# Altium schematic symbol library Schlib_Altera.SchLib: 17 symbols (part 2 of 4)
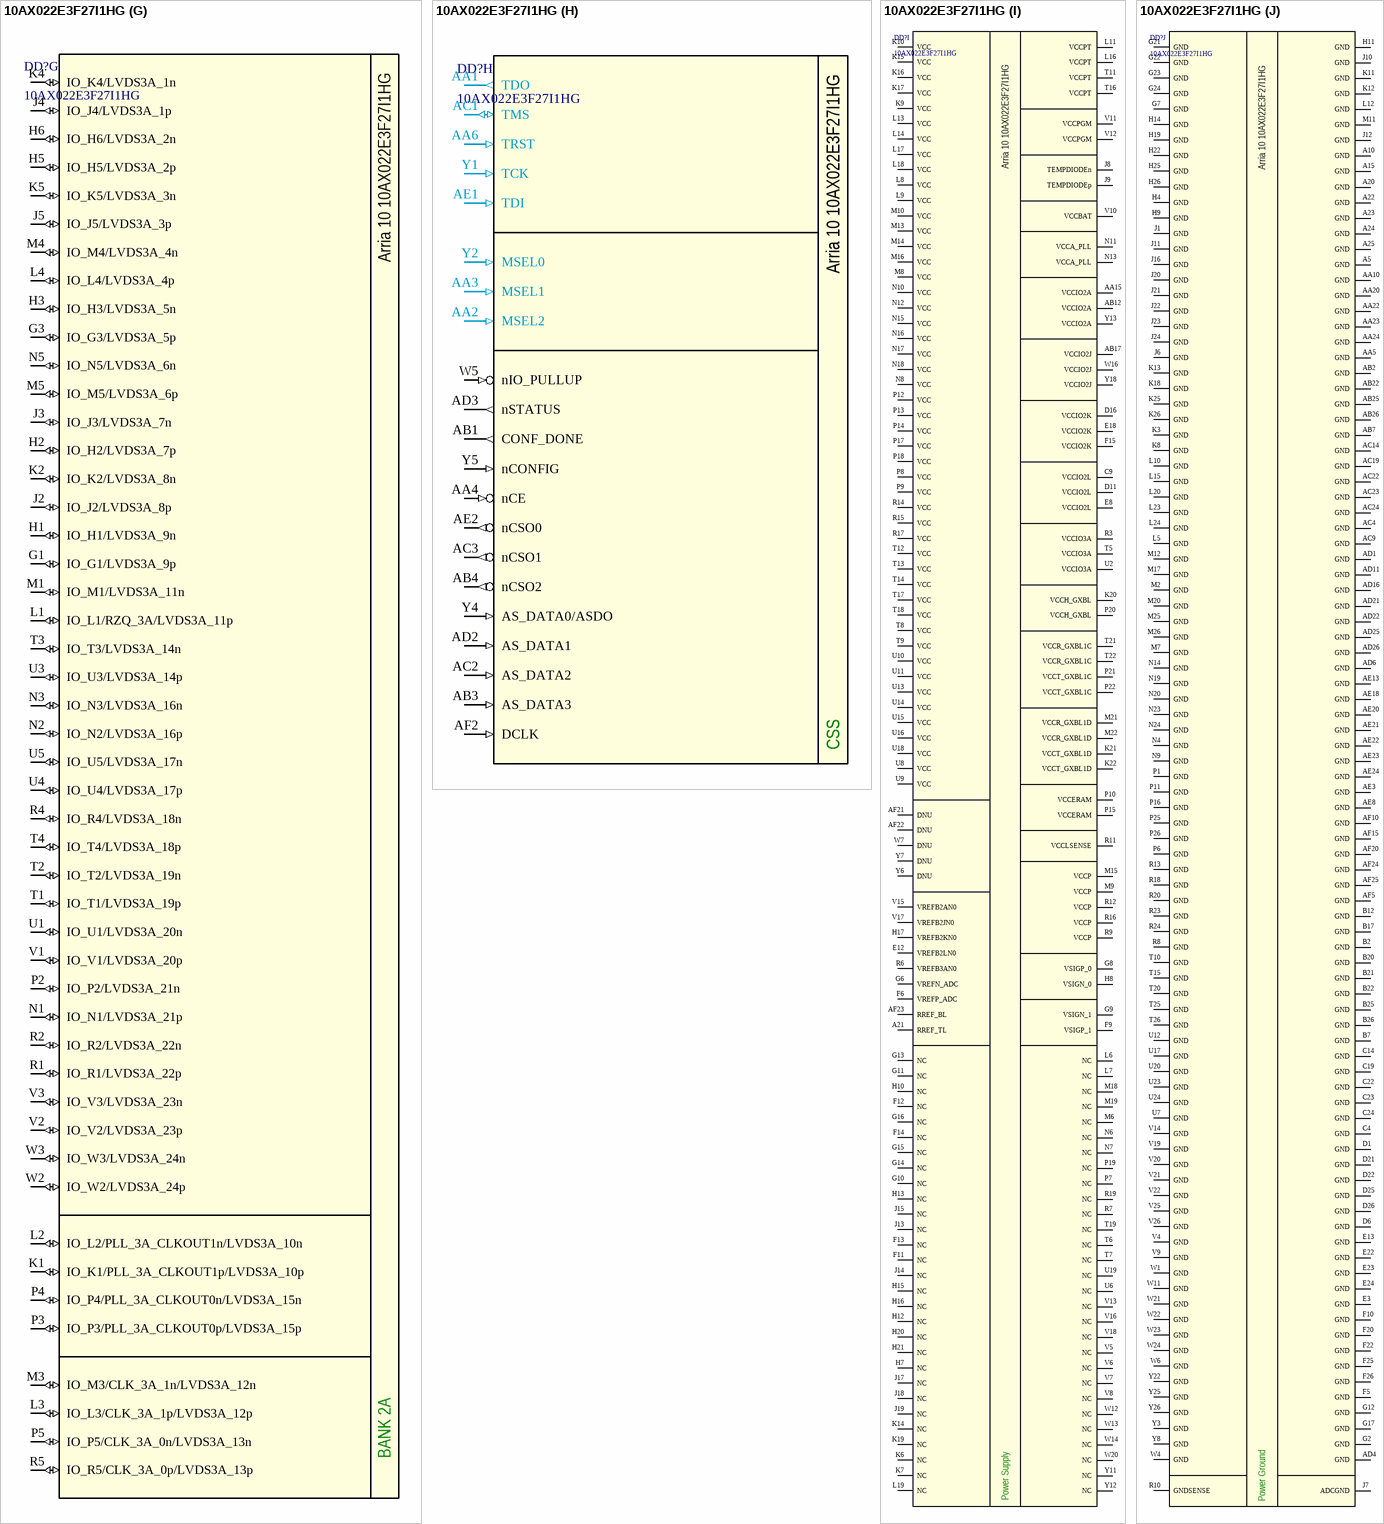
[diagram p25: symbol 10AX022E3F27I1HG]

## 10AX022E3F27I1HG
designator DD?
Intel Arria 10 FPGA with 220k LEs; Manufacturer: Altera/Intel; Part Number: 10AX022E3F27I1HG; Package: FBGA-672
footprint FBGA-672 (BGA, 672-Leads, Body 27,00x27,00mmx3,35mm, Pitch 1,00mm)
part A pins: B23 GXBL1D_RX_CH5n/GXBL1D_REFCLK5n (in), B24 GXBL1D_RX_CH5p/GXBL1D_REFCLK5p (in), C25 GXBL1D_TX_CH5n (out), C26 GXBL1D_TX_CH5p (out), D23 GXBL1D_RX_CH4n/GXBL1D_REFCLK4n (in), D24 GXBL1D_RX_CH4p/GXBL1D_REFCLK4p (in), E25 GXBL1D_TX_CH4n (out), E26 GXBL1D_TX_CH4p (out), F23 GXBL1D_RX_CH3n/GXBL1D_REFCLK3n (in), F24 GXBL1D_RX_CH3p/GXBL1D_REFCLK3p (in), G25 GXBL1D_TX_CH3n (out), G26 GXBL1D_TX_CH3p (out), H23 GXBL1D_RX_CH2n/GXBL1D_REFCLK2n (in), H24 GXBL1D_RX_CH2p/GXBL1D_REFCLK2p (in), J25 GXBL1D_TX_CH2n (out), J26 GXBL1D_TX_CH2p (out), K23 GXBL1D_RX_CH1n/GXBL1D_REFCLK1n (in), K24 GXBL1D_RX_CH1p/GXBL1D_REFCLK1p (in), L21 REFCLK_GXBL1D_CHTn (in), L22 REFCLK_GXBL1D_CHTp (in), L25 GXBL1D_TX_CH1n (out), L26 GXBL1D_TX_CH1p (out), M23 GXBL1D_RX_CH0n/GXBL1D_REFCLK0n (in), M24 GXBL1D_RX_CH0p/GXBL1D_REFCLK0p (in), N21 REFCLK_GXBL1D_CHBn (in), N22 REFCLK_GXBL1D_CHBp (in), N25 GXBL1D_TX_CH0n (out), N26 GXBL1D_TX_CH0p (out)
part B pins: AA25 GXBL1C_TX_CH2n (out), AA26 GXBL1C_TX_CH2p (out), AB23 GXBL1C_RX_CH1n/GXBL1C_REFCLK1n (in), AB24 GXBL1C_RX_CH1p/GXBL1C_REFCLK1p (in), AC25 GXBL1C_TX_CH1n (out), AC26 GXBL1C_TX_CH1p (out), AD23 GXBL1C_RX_CH0n/GXBL1C_REFCLK0n (in), AD24 GXBL1C_RX_CH0p/GXBL1C_REFCLK0p (in), AE25 GXBL1C_TX_CH0n (out), AE26 GXBL1C_TX_CH0p (out), P23 GXBL1C_RX_CH5n/GXBL1C_REFCLK5n (in), P24 GXBL1C_RX_CH5p/GXBL1C_REFCLK5p (in), R21 REFCLK_GXBL1C_CHTn (in), R22 REFCLK_GXBL1C_CHTp (in), R25 GXBL1C_TX_CH5n (out), R26 GXBL1C_TX_CH5p (out), T23 GXBL1C_RX_CH4n/GXBL1C_REFCLK4n (in), T24 GXBL1C_RX_CH4p/GXBL1C_REFCLK4p (in), U21 REFCLK_GXBL1C_CHBn (in), U22 REFCLK_GXBL1C_CHBp (in), U25 GXBL1C_TX_CH4n (out), U26 GXBL1C_TX_CH4p (out), V23 GXBL1C_RX_CH3n/GXBL1C_REFCLK3n (in), V24 GXBL1C_RX_CH3p/GXBL1C_REFCLK3p (in), W25 GXBL1C_TX_CH3n (out), W26 GXBL1C_TX_CH3p (out), Y23 GXBL1C_RX_CH2n/GXBL1C_REFCLK2n (in), Y24 GXBL1C_RX_CH2p/GXBL1C_REFCLK2p (in)
part C pins: A2 IO_A2/DIFFIO2L_22p (io), A3 IO_A3/DIFFIO2L_22n (io), A4 IO_A4/DIFFIO2L_14p (io), A6 IO_A6/CLK_2L_0p/DIFFIO2L_13p (io), A7 IO_A7/PLL_2L_CLKOUT0p/DIFFIO2L_15p (io), A8 IO_A8/DIFFIO2L_18p (io), A9 IO_A9/DIFFIO2L_18n (io), B1 IO_B1/DIFFIO2L_21p (io), B3 IO_B3/DIFFIO2L_17p (io), B4 IO_B4/DIFFIO2L_17n (io), B5 IO_B5/DIFFIO2L_14n (io), B6 IO_B6/CLK_2L_0n/DIFFIO2L_13n (io), B8 IO_B8/PLL_2L_CLKOUT0n/DIFFIO2L_15n (io), B9 IO_B9/DIFFIO2L_16p (io), B10 IO_B10/DIFFIO2L_16n (io), C1 IO_C1/DIFFIO2L_21n (io), C2 IO_C2/DIFFIO2L_20p (io), C3 IO_C3/DIFFIO2L_20n (io), C5 IO_C5/CLK_2L_1p/DIFFIO2L_12p (io), C6 IO_C6/CLK_2L_1n/DIFFIO2L_12n (io), C7 IO_C7/DIFFIO2L_9p (io), C8 IO_C8/DIFFIO2L_9n (io), C10 IO_C10/RZQ_2L/DIFFIO2L_11p (io), D2 IO_D2/DIFFIO2L_19p (io), D3 IO_D3/DIFFIO2L_19n (io), D4 IO_D4/DIFFIO2L_2p (io), D5 IO_D5/DIFFIO2L_2n (io), D7 IO_D7/PLL_2L_CLKOUT1p/DIFFIO2L_10p (io), D8 IO_D8/PLL_2L_CLKOUT1n/DIFFIO2L_10n (io), D9 IO_D9/DIFFIO2L_7p (io), D10 IO_D10/DIFFIO2L_11n (io), E1 IO_E1/DIFFIO2L_23p (io), E2 IO_E2/DIFFIO2L_23n (io), E4 IO_E4/DIFFIO2L_1p (io), E5 IO_E5/DIFFIO2L_1n (io), E6 IO_E6/DIFFIO2L_3p (io), E7 IO_E7/DIFFIO2L_3n (io), E9 IO_E9/DIFFIO2L_7n (io), E10 IO_E10/DIFFIO2L_8p (io), E11 IO_E11/DIFFIO2L_8n (io), F1 IO_F1/DIFFIO2L_24p (io), F2 IO_F2/DIFFIO2L_24n (io), F3 IO_F3/DIFFIO2L_4p (io), F4 IO_F4/DIFFIO2L_4n (io), F7 IO_F7/DIFFIO2L_6p (io), F8 IO_F8/DIFFIO2L_6n (io), G4 IO_G4/DIFFIO2L_5p (io), G5 IO_G5/DIFFIO2L_5n (io)
part D pins: A11 IO_A11/LVDS2K_24p (io), A12 IO_A12/LVDS2K_22p (io), A13 IO_A13/LVDS2K_22n (io), A14 IO_A14/LVDS2K_21p (io), A16 IO_A16/PLL_2K_CLKOUT0p/LVDS2K_15p (io), A17 IO_A17/LVDS2K_16n (io), A18 IO_A18/LVDS2K_16p (io), A19 IO_A19/LVDS2K_18p (io), B11 IO_B11/LVDS2K_24n (io), B13 IO_B13/LVDS2K_20p (io), B14 IO_B14/LVDS2K_21n (io), B15 IO_B15/LVDS2K_17p (io), B16 IO_B16/PLL_2K_CLKOUT0n/LVDS2K_15n (io), B18 IO_B18/CLK_2K_1p/LVDS2K_12p (io), B19 IO_B19/LVDS2K_18n (io), C11 IO_C11/LVDS2K_23p (io), C12 IO_C12/LVDS2K_23n (io), C13 IO_C13/LVDS2K_20n (io), C15 IO_C15/LVDS2K_17n (io), C16 IO_C16/CLK_2K_0n/LVDS2K_13n (io), C17 IO_C17/CLK_2K_0p/LVDS2K_13p (io), C18 IO_C18/CLK_2K_1n/LVDS2K_12n (io), C20 IO_C20/LVDS2K_7n (io), C21 IO_C21/LVDS2K_7p (io), D12 IO_D12/LVDS2K_19p (io), D13 IO_D13/LVDS2K_19n (io), D14 IO_D14/LVDS2K_14n (io), D15 IO_D15/LVDS2K_14p (io), D17 IO_D17/LVDS2K_9n (io), D18 IO_D18/LVDS2K_9p (io), D19 IO_D19/LVDS2K_8p (io), D20 IO_D20/PLL_2K_CLKOUT1p/LVDS2K_10p (io), E14 IO_E14/LVDS2K_6n (io), E15 IO_E15/LVDS2K_6p (io), E16 IO_E16/LVDS2K_2p (io), E17 IO_E17/LVDS2K_3p (io), E19 IO_E19/LVDS2K_8n (io), E20 IO_E20/PLL_2K_CLKOUT1n/LVDS2K_10n (io), E21 IO_E21/RZQ_2K/LVDS2K_11p (io), F16 IO_F16/LVDS2K_2n (io), F17 IO_F17/LVDS2K_3n (io), F18 IO_F18/LVDS2K_5n (io), F19 IO_F19/LVDS2K_5p (io), F21 IO_F21/LVDS2K_11n (io), G18 IO_G18/LVDS2K_1p (io), G19 IO_G19/LVDS2K_4n (io), G20 IO_G20/LVDS2K_4p (io), H18 IO_H18/LVDS2K_1n (io)
part E pins: AA16 IO_AA16/LVDS2J_6p (io), AA17 IO_AA17/LVDS2J_5n (io), AA18 IO_AA18/LVDS2J_9n (io), AA19 IO_AA19/PLL_2J_CLKOUT1n/LVDS2J_10n (io), AA21 IO_AA21/LVDS2J_2p (io), AB15 IO_AB15/LVDS2J_14n (io), AB16 IO_AB16/LVDS2J_5p (io), AB18 IO_AB18/LVDS2J_9p (io), AB19 IO_AB19/PLL_2J_CLKOUT1p/LVDS2J_10p (io), AB20 IO_AB20/LVDS2J_7n (io), AB21 IO_AB21/LVDS2J_7p (io), AC15 IO_AC15/LVDS2J_14p (io), AC16 IO_AC16/LVDS2J_17n (io), AC17 IO_AC17/LVDS2J_17p (io), AC18 IO_AC18/CLK_2J_1n/LVDS2J_12n (io), AC20 IO_AC20/LVDS2J_8n (io), AC21 IO_AC21/LVDS2J_8p (io), AD14 IO_AD14/LVDS2J_22p (io), AD15 IO_AD15/LVDS2J_22n (io), AD17 IO_AD17/LVDS2J_16n (io), AD18 IO_AD18/CLK_2J_1p/LVDS2J_12p (io), AD19 IO_AD19/LVDS2J_11n (io), AD20 IO_AD20/RZQ_2J/LVDS2J_11p (io), AE10 IO_AE10/LVDS2J_19n (io), AE11 IO_AE11/LVDS2J_23p (io), AE12 IO_AE12/LVDS2J_23n (io), AE14 IO_AE14/LVDS2J_21p (io), AE15 IO_AE15/LVDS2J_21n (io), AE16 IO_AE16/LVDS2J_18n (io), AE17 IO_AE17/LVDS2J_16p (io), AE19 IO_AE19/CLK_2J_0n/LVDS2J_13n (io), AF9 IO_AF9/LVDS2J_19p (io), AF11 IO_AF11/LVDS2J_20p (io), AF12 IO_AF12/LVDS2J_20n (io), AF13 IO_AF13/LVDS2J_24n (io), AF14 IO_AF14/LVDS2J_24p (io), AF16 IO_AF16/LVDS2J_18p (io), AF17 IO_AF17/PLL_2J_CLKOUT0n/LVDS2J_15n (io), AF18 IO_AF18/PLL_2J_CLKOUT0p/LVDS2J_15p (io), AF19 IO_AF19/CLK_2J_0p/LVDS2J_13p (io), W17 IO_W17/LVDS2J_4n (io), W18 IO_W18/LVDS2J_1n (io), W19 IO_W19/LVDS2J_1p (io), Y16 IO_Y16/LVDS2J_6n (io), Y17 IO_Y17/LVDS2J_4p (io), Y19 IO_Y19/LVDS2J_3n (io), Y20 IO_Y20/LVDS2J_3p (io), Y21 IO_Y21/LVDS2J_2n (io)
part F pins: AA7 IO_AA7/LVDS2A_22p (io), AA8 IO_AA8/CvP_CONFDONE/LVDS2A_22n (io), AA9 IO_AA9/PR_READY/LVDS2A_19n (io), AA11 IO_AA11/CRC_ERROR/LVDS2A_24n (io), AA12 IO_AA12/LVDS2A_21p (io), AA13 IO_AA13/PR_ERROR/LVDS2A_21n (io), AA14 IO_AA14/CLK_2A_0p/DATA23/LVDS2A_13p (io), AB5 IO_AB5/DATA17/LVDS2A_9p (io), AB6 IO_AB6/DATA16/LVDS2A_9n (io), AB8 IO_AB8/nPERSTL0/LVDS2A_19p (io), AB9 IO_AB9/RZQ_2A/LVDS2A_11p (io), AB10 IO_AB10/nCEO/LVDS2A_11n (io), AB11 IO_AB11/DATA30/LVDS2A_17n (io), AB13 IO_AB13/DATA29/LVDS2A_16p (io), AB14 IO_AB14/DATA28/LVDS2A_16n (io), AC5 IO_AC5/CLK_2A_1n/DATA20/LVDS2A_12n (io), AC6 IO_AC6/PLL_2A_CLKOUT1p/LVDS2A_10p (io), AC7 IO_AC7/PLL_2A_CLKOUT1n/LVDS2A_10n (io), AC8 IO_AC8/DATA12/LVDS2A_7n (io), AC10 IO_AC10/DATA14/LVDS2A_8n (io), AC11 IO_AC11/DATA31/LVDS2A_17p (io), AC12 IO_AC12/PR_REQUEST/LVDS2A_18p (io), AC13 IO_AC13/CLKUSR/LVDS2A_18n (io), AD5 IO_AD5/CLK_2A_1p/DATA21/LVDS2A_12p (io), AD7 IO_AD7/DATA4/LVDS2A_3n (io), AD8 IO_AD8/DATA13/LVDS2A_7p (io), AD9 IO_AD9/DATA2/LVDS2A_2n (io), AD10 IO_AD10/DATA15/LVDS2A_8p (io), AD12 IO_AD12/DATA25/LVDS2A_14p (io), AD13 IO_AD13/DATA24/LVDS2A_14n (io), AE4 IO_AE4/DATA1/LVDS2A_1p (io), AE5 IO_AE5/DATA0/LVDS2A_1n (io), AE6 IO_AE6/DATA8/LVDS2A_5n (io), AE7 IO_AE7/DATA5/LVDS2A_3p (io), AE9 IO_AE9/DATA3/LVDS2A_2p (io), AF3 IO_AF3/DATA7/LVDS2A_4p (io), AF4 IO_AF4/DATA6/LVDS2A_4n (io), AF6 IO_AF6/DATA9/LVDS2A_5p (io), AF7 IO_AF7/DATA11/LVDS2A_6p (io), AF8 IO_AF8/DATA10/LVDS2A_6n (io), W8 IO_W8/LVDS2A_20p (io), W9 IO_W9/PR_DONE/LVDS2A_20n (io), W10 IO_W10/INIT_DONE/LVDS2A_23n (io), W15 IO_W15/PLL_2A_CLKOUT0n/LVDS2A_15n (io), Y9 IO_Y9/DEV_OE/LVDS2A_23p (io), Y10 IO_Y10/DEV_CLRn/LVDS2A_24p (io), Y14 IO_Y14/CLK_2A_0n/DATA22/LVDS2A_13n (io), Y15 IO_Y15/PLL_2A_CLKOUT0p/LVDS2A_15p (io)
part G pins: G1 IO_G1/LVDS3A_9p (io), G3 IO_G3/LVDS3A_5p (io), H1 IO_H1/LVDS3A_9n (io), H2 IO_H2/LVDS3A_7p (io), H3 IO_H3/LVDS3A_5n (io), H5 IO_H5/LVDS3A_2p (io), H6 IO_H6/LVDS3A_2n (io), J2 IO_J2/LVDS3A_8p (io), J3 IO_J3/LVDS3A_7n (io), J4 IO_J4/LVDS3A_1p (io), J5 IO_J5/LVDS3A_3p (io), K1 IO_K1/PLL_3A_CLKOUT1p/LVDS3A_10p (io), K2 IO_K2/LVDS3A_8n (io), K4 IO_K4/LVDS3A_1n (io), K5 IO_K5/LVDS3A_3n (io), L1 IO_L1/RZQ_3A/LVDS3A_11p (io), L2 IO_L2/PLL_3A_CLKOUT1n/LVDS3A_10n (io), L3 IO_L3/CLK_3A_1p/LVDS3A_12p (io), L4 IO_L4/LVDS3A_4p (io), M1 IO_M1/LVDS3A_11n (io), M3 IO_M3/CLK_3A_1n/LVDS3A_12n (io), M4 IO_M4/LVDS3A_4n (io), M5 IO_M5/LVDS3A_6p (io), N1 IO_N1/LVDS3A_21p (io), N2 IO_N2/LVDS3A_16p (io), N3 IO_N3/LVDS3A_16n (io), N5 IO_N5/LVDS3A_6n (io), P2 IO_P2/LVDS3A_21n (io), P3 IO_P3/PLL_3A_CLKOUT0p/LVDS3A_15p (io), P4 IO_P4/PLL_3A_CLKOUT0n/LVDS3A_15n (io), P5 IO_P5/CLK_3A_0n/LVDS3A_13n (io), R1 IO_R1/LVDS3A_22p (io), R2 IO_R2/LVDS3A_22n (io), R4 IO_R4/LVDS3A_18n (io), R5 IO_R5/CLK_3A_0p/LVDS3A_13p (io), T1 IO_T1/LVDS3A_19p (io), T2 IO_T2/LVDS3A_19n (io), T3 IO_T3/LVDS3A_14n (io), T4 IO_T4/LVDS3A_18p (io), U1 IO_U1/LVDS3A_20n (io), U3 IO_U3/LVDS3A_14p (io), U4 IO_U4/LVDS3A_17p (io), U5 IO_U5/LVDS3A_17n (io), V1 IO_V1/LVDS3A_20p (io), V2 IO_V2/LVDS3A_23p (io), V3 IO_V3/LVDS3A_23n (io), W2 IO_W2/LVDS3A_24p (io), W3 IO_W3/LVDS3A_24n (io)
part H pins: AA1 TDO (out), AA2 MSEL2 (in), AA3 MSEL1 (in), AA4 nCE (in), AA6 TRST (in), AB1 CONF_DONE (out), AB3 AS_DATA3 (in), AB4 nCSO2 (out), AC1 TMS (io), AC2 AS_DATA2 (in), AC3 nCSO1 (out), AD2 AS_DATA1 (in), AD3 nSTATUS (out), AE1 TDI (in), AE2 nCSO0 (out), AF2 DCLK (in), W5 nIO_PULLUP (in), Y1 TCK (in), Y2 MSEL0 (in), Y4 AS_DATA0/ASDO (in), Y5 nCONFIG (in)
part I pins: A21 RREF_TL (power), AA15 VCCIO2A (power), AB12 VCCIO2A (power), AB17 VCCIO2J (power), AF21 DNU (power), AF22 DNU (power), AF23 RREF_BL (power), C9 VCCIO2L (power), D11 VCCIO2L (power), D16 VCCIO2K (power), E8 VCCIO2L (power), E12 VREFB2LN0 (power), E18 VCCIO2K (power), F6 VREFP_ADC (power), F9 VSIGP_1 (power), F11 NC (hiz), F12 NC (hiz), F13 NC (hiz), F14 NC (hiz), F15 VCCIO2K (power), G6 VREFN_ADC (power), G8 VSIGP_0 (power), G9 VSIGN_1 (power), G10 NC (hiz), G11 NC (hiz), G13 NC (hiz), G14 NC (hiz), G15 NC (hiz), G16 NC (hiz), H7 NC (hiz), H8 VSIGN_0 (power), H10 NC (hiz), H12 NC (hiz), H13 NC (hiz), H15 NC (hiz), H16 NC (hiz), H17 VREFB2KN0 (power), H20 NC (hiz), H21 NC (hiz), J8 TEMPDIODEn (power), J9 TEMPDIODEp (power), J13 NC (hiz), J14 NC (hiz), J15 NC (hiz), J17 NC (hiz), J18 NC (hiz), J19 NC (hiz), K6 NC (hiz), K7 NC (hiz), K9 VCC (power), K10 VCC (power), K14 NC (hiz), K15 VCC (power), K16 VCC (power), K17 VCC (power), K19 NC (hiz), K20 VCCH_GXBL (power), K21 VCCT_GXBL1D (power), K22 VCCT_GXBL1D (power), L6 NC (hiz), L7 NC (hiz), L8 VCC (power), L9 VCC (power), L11 VCCPT (power), L13 VCC (power), L14 VCC (power), L16 VCCPT (power), L17 VCC (power), L18 VCC (power), L19 NC (hiz), M6 NC (hiz), M8 VCC (power), M9 VCCP (power), M10 VCC (power), M13 VCC (power), M14 VCC (power), M15 VCCP (power), M16 VCC (power), M18 NC (hiz), M19 NC (hiz), M21 VCCR_GXBL1D (power), M22 VCCR_GXBL1D (power), N6 NC (hiz), N7 NC (hiz), N8 VCC (power), N10 VCC (power), N11 VCCA_PLL (power), N12 VCC (power), N13 VCCA_PLL (power), N15 VCC (power), N16 VCC (power), N17 VCC (power), N18 VCC (power), P7 NC (hiz), P8 VCC (power), P9 VCC (power), P10 VCCERAM (power), P12 VCC (power), P13 VCC (power), P14 VCC (power), P15 VCCERAM (power), P17 VCC (power), P18 VCC (power), P19 NC (hiz), P20 VCCH_GXBL (power), P21 VCCT_GXBL1C (power), P22 VCCT_GXBL1C (power), R3 VCCIO3A (power), R6 VREFB3AN0 (power), R7 NC (hiz), R9 VCCP (power), R11 VCCLSENSE (power), R12 VCCP (power), R14 VCC (power), R15 VCC (power), R16 VCCP (power), R17 VCC (power), R19 NC (hiz), T5 VCCIO3A (power), T6 NC (hiz), T7 NC (hiz), T8 VCC (power), T9 VCC (power), T11 VCCPT (power), T12 VCC (power), T13 VCC (power), T14 VCC (power), T16 VCCPT (power), T17 VCC (power), T18 VCC (power), T19 NC (hiz), T21 VCCR_GXBL1C (power), T22 VCCR_GXBL1C (power), U2 VCCIO3A (power), U6 NC (hiz), U8 VCC (power), U9 VCC (power), U10 VCC (power), U11 VCC (power), U13 VCC (power), U14 VCC (power), U15 VCC (power), U16 VCC (power), U18 VCC (power), U19 NC (hiz), V5 NC (hiz), V6 NC (hiz), V7 NC (hiz), V8 NC (hiz), V10 VCCBAT (power), V11 VCCPGM (power), V12 VCCPGM (power), V13 NC (hiz), V15 VREFB2AN0 (power), V16 NC (hiz), V17 VREFB2JN0 (power), V18 NC (hiz), W7 DNU (power), W12 NC (hiz), W13 NC (hiz), W14 NC (hiz), W16 VCCIO2J (power), W20 NC (hiz), Y6 DNU (power), Y7 DNU (power), Y11 NC (hiz), Y12 NC (hiz), Y13 VCCIO2A (power), Y18 VCCIO2J (power)
part J pins: A5 GND (power), A10 GND (power), A15 GND (power), A20 GND (power), A22 GND (power), A23 GND (power), A24 GND (power), A25 GND (power), AA5 GND (power), AA10 GND (power), AA20 GND (power), AA22 GND (power), AA23 GND (power), AA24 GND (power), AB2 GND (power), AB7 GND (power), AB22 GND (power), AB25 GND (power), AB26 GND (power), AC4 GND (power), AC9 GND (power), AC14 GND (power), AC19 GND (power), AC22 GND (power), AC23 GND (power), AC24 GND (power), AD1 GND (power), AD4 GND (power), AD6 GND (power), AD11 GND (power), AD16 GND (power), AD21 GND (power), AD22 GND (power), AD25 GND (power), AD26 GND (power), AE3 GND (power), AE8 GND (power), AE13 GND (power), AE18 GND (power), AE20 GND (power), AE21 GND (power), AE22 GND (power), AE23 GND (power), AE24 GND (power), AF5 GND (power), AF10 GND (power), AF15 GND (power), AF20 GND (power), AF24 GND (power), AF25 GND (power), B2 GND (power), B7 GND (power), B12 GND (power), B17 GND (power), B20 GND (power), B21 GND (power), B22 GND (power), B25 GND (power), B26 GND (power), C4 GND (power), C14 GND (power), C19 GND (power), C22 GND (power), C23 GND (power), C24 GND (power), D1 GND (power), D6 GND (power), D21 GND (power), D22 GND (power), D25 GND (power), D26 GND (power), E3 GND (power), E13 GND (power), E22 GND (power), E23 GND (power), E24 GND (power), F5 GND (power), F10 GND (power), F20 GND (power), F22 GND (power), F25 GND (power), F26 GND (power), G2 GND (power), G7 GND (power), G12 GND (power), G17 GND (power), G21 GND (power), G22 GND (power), G23 GND (power), G24 GND (power), H4 GND (power), H9 GND (power), H11 GND (power), H14 GND (power), H19 GND (power), H22 GND (power), H25 GND (power), H26 GND (power), J1 GND (power), J6 GND (power), J7 ADCGND (power), J10 GND (power), J11 GND (power), J12 GND (power), J16 GND (power), J20 GND (power), J21 GND (power), J22 GND (power), J23 GND (power), J24 GND (power), K3 GND (power), K8 GND (power), K11 GND (power), K12 GND (power), K13 GND (power), K18 GND (power), K25 GND (power), K26 GND (power), L5 GND (power), L10 GND (power), L12 GND (power), L15 GND (power), L20 GND (power), L23 GND (power), L24 GND (power), M2 GND (power), M7 GND (power), M11 GND (power), M12 GND (power), M17 GND (power), M20 GND (power), M25 GND (power), M26 GND (power), N4 GND (power), N9 GND (power), N14 GND (power), N19 GND (power), N20 GND (power), N23 GND (power), N24 GND (power), P1 GND (power), P6 GND (power), P11 GND (power), P16 GND (power), P25 GND (power), P26 GND (power), R8 GND (power), R10 GNDSENSE (power), R13 GND (power), R18 GND (power), R20 GND (power), R23 GND (power), R24 GND (power), T10 GND (power), T15 GND (power), T20 GND (power), T25 GND (power), T26 GND (power), U7 GND (power), U12 GND (power), U17 GND (power), U20 GND (power), U23 GND (power), U24 GND (power), V4 GND (power), V9 GND (power), V14 GND (power), V19 GND (power), V20 GND (power), V21 GND (power), V22 GND (power), V25 GND (power), V26 GND (power), W1 GND (power), W4 GND (power), W6 GND (power), W11 GND (power), W21 GND (power), W22 GND (power), W23 GND (power), W24 GND (power), Y3 GND (power), Y8 GND (power), Y22 GND (power), Y25 GND (power), Y26 GND (power)
part A text: Arria 10 10AX022E3F27I1HG; BANK 1D
part B text: Arria 10 10AX022E3F27I1HG; BANK 1C
part C text: Arria 10 10AX022E3F27I1HG; BANK 2L
part D text: Arria 10 10AX022E3F27I1HG; BANK 2K
part E text: Arria 10 10AX022E3F27I1HG; BANK 2J
part F text: Arria 10 10AX022E3F27I1HG; BANK 2A
part G text: Arria 10 10AX022E3F27I1HG; BANK 2A
part H text: Arria 10 10AX022E3F27I1HG; CSS
part I text: Arria 10 10AX022E3F27I1HG; Power Supply
part J text: Arria 10 10AX022E3F27I1HG; Power Ground

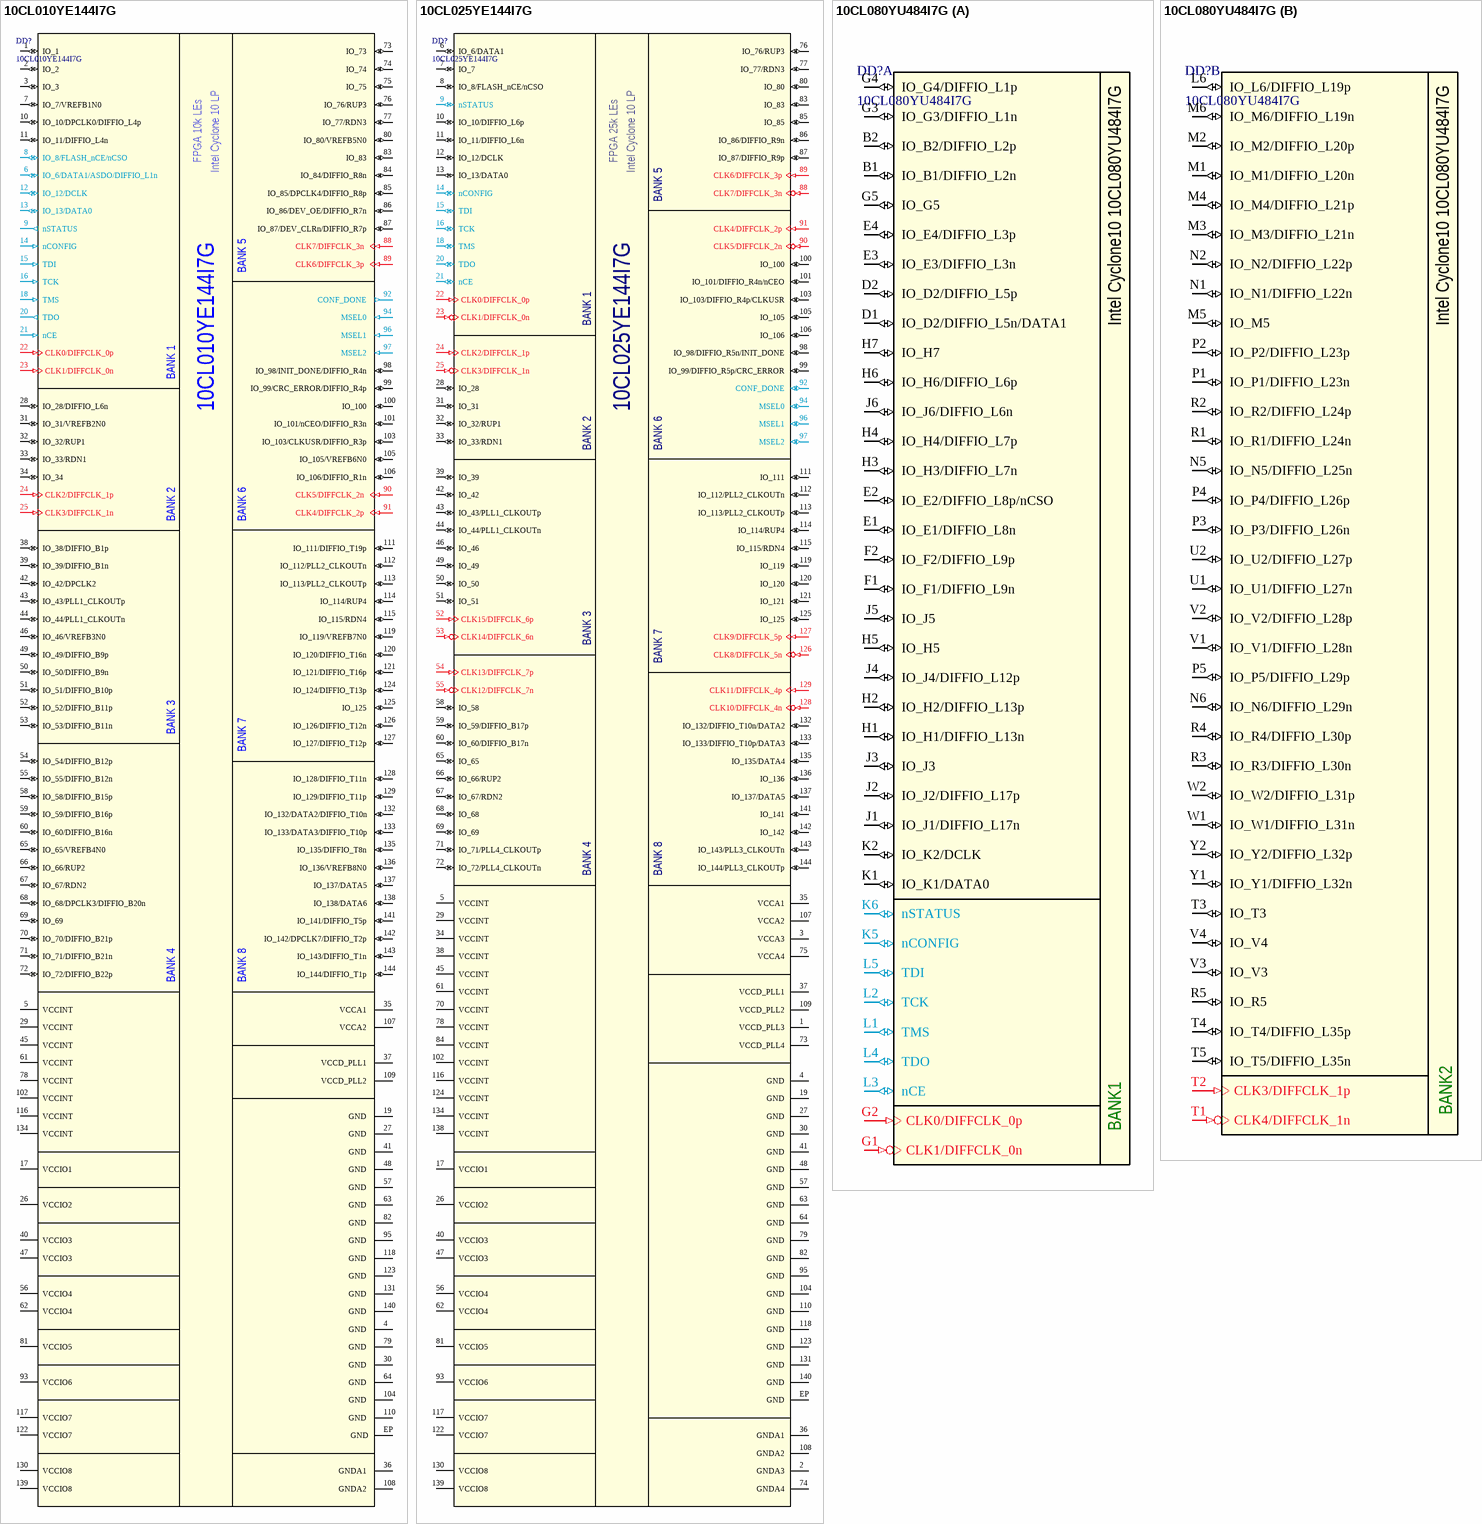
[diagram p12: symbols 10CL010YE144I7G to 10CL080YU484I7G]

## 10CL010YE144I7G
designator DD?
Intel Cyclone 10 FPGA with 10k LEs; Manufacturer: Altera/Intel; Part Number: 10CL010YE144I7G; Package: LQFP-144 (with Exposed Pad)
footprint LQFP-144EP (TSQFP, 144-Leads, Body 20,00x20,00mm, Pitch 0,50mm, IPC Medium Density)
pins: 1 IO_1  (io), 2 IO_2  (io), 3 IO_3  (io), 4 GND  (power), 5 VCCINT  (power), 6 IO_6/DATA1/ASDO/DIFFIO_L1n  (io), 7 IO_7/VREFB1N0  (io), 8 IO_8/FLASH_nCE/nCSO (io), 9 nSTATUS (out), 10 IO_10/DPCLK0/DIFFIO_L4p  (io), 11 IO_11/DIFFIO_L4n  (io), 12 IO_12/DCLK  (io), 13 IO_13/DATA0  (io), 14 nCONFIG (in), 15 TDI  (in), 16 TCK  (in), 17 VCCIO1  (power), 18 TMS  (in), 19 GND  (power), 20 TDO  (out), 21 nCE  (in), 22 CLK0/DIFFCLK_0p  (in), 23 CLK1/DIFFCLK_0n  (in), 24 CLK2/DIFFCLK_1p  (in), 25 CLK3/DIFFCLK_1n  (in), 26 VCCIO2  (power), 27 GND  (power), 28 IO_28/DIFFIO_L6n  (io), 29 VCCINT  (power), 30 GND  (power), 31 IO_31/VREFB2N0  (io), 32 IO_32/RUP1  (io), 33 IO_33/RDN1  (io), 34 IO_34  (io), 35 VCCA1  (power), 36 GNDA1  (power), 37 VCCD_PLL1  (power), 38 IO_38/DIFFIO_B1p  (io), 39 IO_39/DIFFIO_B1n  (io), 40 VCCIO3  (power), 41 GND  (power), 42 IO_42/DPCLK2  (io), 43 IO_43/PLL1_CLKOUTp  (io), 44 IO_44/PLL1_CLKOUTn  (io), 45 VCCINT  (power), 46 IO_46/VREFB3N0  (io), 47 VCCIO3  (power), 48 GND  (power), 49 IO_49/DIFFIO_B9p  (io), 50 IO_50/DIFFIO_B9n  (io), 51 IO_51/DIFFIO_B10p  (io), 52 IO_52/DIFFIO_B11p  (io), 53 IO_53/DIFFIO_B11n  (io), 54 IO_54/DIFFIO_B12p  (io), 55 IO_55/DIFFIO_B12n  (io), 56 VCCIO4  (power), 57 GND  (power), 58 IO_58/DIFFIO_B15p  (io), 59 IO_59/DIFFIO_B16p  (io), 60 IO_60/DIFFIO_B16n  (io), 61 VCCINT  (power), 62 VCCIO4  (power), 63 GND  (power), 64 GND  (power), 65 IO_65/VREFB4N0  (io), 66 IO_66/RUP2  (io), 67 IO_67/RDN2  (io), 68 IO_68/DPCLK3/DIFFIO_B20n  (io), 69 IO_69  (io), 70 IO_70/DIFFIO_B21p  (io), 71 IO_71/DIFFIO_B21n  (io), 72 IO_72/DIFFIO_B22p  (io), 73 IO_73  (io), 74 IO_74  (io), 75 IO_75  (io), 76 IO_76/RUP3  (io), 77 IO_77/RDN3  (io), 78 VCCINT  (power), 79 GND  (power), 80 IO_80/VREFB5N0  (io), 81 VCCIO5  (power), 82 GND  (power), 83 IO_83  (io), 84 IO_84/DIFFIO_R8n  (io), 85 IO_85/DPCLK4/DIFFIO_R8p  (io), 86 IO_86/DEV_OE/DIFFIO_R7n  (io), 87 IO_87/DEV_CLRn/DIFFIO_R7p  (io), 88 CLK7/DIFFCLK_3n  (in), 89 CLK6/DIFFCLK_3p  (in), 90 CLK5/DIFFCLK_2n  (in), 91 CLK4/DIFFCLK_2p  (in), 92 CONF_DONE  (out), 93 VCCIO6  (power), 94 MSEL0  (in), 95 GND  (power), 96 MSEL1  (in), 97 MSEL2  (in), 98 IO_98/INIT_DONE/DIFFIO_R4n  (io), 99 IO_99/CRC_ERROR/DIFFIO_R4p  (io), 100 IO_100  (io), 101 IO_101/nCEO/DIFFIO_R3n  (io), 102 VCCINT  (power), 103 IO_103/CLKUSR/DIFFIO_R3p  (io), 104 GND  (power), 105 IO_105/VREFB6N0  (io), 106 IO_106/DIFFIO_R1n  (io), 107 VCCA2  (power), 108 GNDA2  (power), 109 VCCD_PLL2  (power), 110 GND  (power), 111 IO_111/DIFFIO_T19p  (io), 112 IO_112/PLL2_CLKOUTn  (io), 113 IO_113/PLL2_CLKOUTp  (io), 114 IO_114/RUP4  (io), 115 IO_115/RDN4  (io), 116 VCCINT  (power), 117 VCCIO7  (power), 118 GND  (power), 119 IO_119/VREFB7N0  (io), 120 IO_120/DIFFIO_T16n  (io), 121 IO_121/DIFFIO_T16p  (io), 122 VCCIO7  (power), 123 GND  (power), 124 IO_124/DIFFIO_T13p  (io), 125 IO_125  (io), 126 IO_126/DIFFIO_T12n  (io), 127 IO_127/DIFFIO_T12p  (io), 128 IO_128/DIFFIO_T11n  (io), 129 IO_129/DIFFIO_T11p  (io), 130 VCCIO8  (power), 131 GND  (power), 132 IO_132/DATA2/DIFFIO_T10n  (io), 133 IO_133/DATA3/DIFFIO_T10p  (io), 134 VCCINT  (power), 135 IO_135/DIFFIO_T8n  (io), 136 IO_136/VREFB8N0  (io), 137 IO_137/DATA5  (io), 138 IO_138/DATA6  (io), 139 VCCIO8  (power), 140 GND  (power), 141 IO_141/DIFFIO_T5p  (io), 142 IO_142/DPCLK7/DIFFIO_T2p  (io), 143 IO_143/DIFFIO_T1n  (io), 144 IO_144/DIFFIO_T1p  (io), EP GND
text: FPGA 10k LEs; Intel Cyclone 10 LP; BANK 5; BANK 1; BANK 2; BANK 6; BANK 3; BANK 7; BANK 4; BANK 8

## 10CL025YE144I7G
designator DD?
Intel Cyclone 10 FPGA with 25k LEs; Manufacturer: Altera/Intel; Part Number: 10CL025YE144I7G; Package: LQFP-144 (with Exposed Pad)
footprint LQFP-144EP (TSQFP, 144-Leads, Body 20,00x20,00mm, Pitch 0,50mm, IPC Medium Density)
pins: 1 VCCD_PLL3, 2 GNDA3, 3 VCCA3, 4 GND, 5 VCCINT, 6 IO_6/DATA1 (io), 7 IO_7 (io), 8 IO_8/FLASH_nCE/nCSO (io), 9 nSTATUS (io), 10 IO_10/DIFFIO_L6p (io), 11 IO_11/DIFFIO_L6n (io), 12 IO_12/DCLK (io), 13 IO_13/DATA0 (io), 14 nCONFIG (io), 15 TDI (io), 16 TCK (io), 17 VCCIO1, 18 TMS (io), 19 GND, 20 TDO (io), 21 nCE (io), 22 CLK0/DIFFCLK_0p (in), 23 CLK1/DIFFCLK_0n (in), 24 CLK2/DIFFCLK_1p (in), 25 CLK3/DIFFCLK_1n (in), 26 VCCIO2, 27 GND, 28 IO_28 (io), 29 VCCINT, 30 GND, 31 IO_31 (io), 32 IO_32/RUP1 (io), 33 IO_33/RDN1 (io), 34 VCCINT, 35 VCCA1, 36 GNDA1, 37 VCCD_PLL1, 38 VCCINT, 39 IO_39 (io), 40 VCCIO3, 41 GND, 42 IO_42 (io), 43 IO_43/PLL1_CLKOUTp (io), 44 IO_44/PLL1_CLKOUTn (io), 45 VCCINT, 46 IO_46 (io), 47 VCCIO3, 48 GND, 49 IO_49 (io), 50 IO_50 (io), 51 IO_51 (io), 52 CLK15/DIFFCLK_6p (in), 53 CLK14/DIFFCLK_6n (in), 54 CLK13/DIFFCLK_7p (in), 55 CLK12/DIFFCLK_7n (in), 56 VCCIO4, 57 GND, 58 IO_58 (io), 59 IO_59/DIFFIO_B17p (io), 60 IO_60/DIFFIO_B17n (io), 61 VCCINT, 62 VCCIO4, 63 GND, 64 GND, 65 IO_65 (io), 66 IO_66/RUP2 (io), 67 IO_67/RDN2 (io), 68 IO_68 (io), 69 IO_69 (io), 70 VCCINT, 71 IO_71/PLL4_CLKOUTp (io), 72 IO_72/PLL4_CLKOUTn (io), 73 VCCD_PLL4, 74 GNDA4, 75 VCCA4, 76 IO_76/RUP3 (io), 77 IO_77/RDN3 (io), 78 VCCINT, 79 GND, 80 IO_80 (io), 81 VCCIO5, 82 GND, 83 IO_83 (io), 84 VCCINT, 85 IO_85 (io), 86 IO_86/DIFFIO_R9n (io), 87 IO_87/DIFFIO_R9p (io), 88 CLK7/DIFFCLK_3n (in), 89 CLK6/DIFFCLK_3p (in), 90 CLK5/DIFFCLK_2n (in), 91 CLK4/DIFFCLK_2p (in), 92 CONF_DONE (io), 93 VCCIO6, 94 MSEL0 (io), 95 GND, 96 MSEL1 (io), 97 MSEL2 (io), 98 IO_98/DIFFIO_R5n/INIT_DONE (io), 99 IO_99/DIFFIO_R5p/CRC_ERROR (io), 100 IO_100 (io), 101 IO_101/DIFFIO_R4n/nCEO (io), 102 VCCINT, 103 IO_103/DIFFIO_R4p/CLKUSR (io), 104 GND, 105 IO_105 (io), 106 IO_106 (io), 107 VCCA2, 108 GNDA2, 109 VCCD_PLL2, 110 GND, 111 IO_111 (io), 112 IO_112/PLL2_CLKOUTn (io), 113 IO_113/PLL2_CLKOUTp (io), 114 IO_114/RUP4 (io), 115 IO_115/RDN4 (io), 116 VCCINT, 117 VCCIO7, 118 GND, 119 IO_119 (io), 120 IO_120 (io), 121 IO_121 (io), 122 VCCIO7, 123 GND, 124 VCCINT, 125 IO_125 (io), 126 CLK8/DIFFCLK_5n (in), 127 CLK9/DIFFCLK_5p (in), 128 CLK10/DIFFCLK_4n (in), 129 CLK11/DIFFCLK_4p (in), 130 VCCIO8, 131 GND, 132 IO_132/DIFFIO_T10n/DATA2 (io), 133 IO_133/DIFFIO_T10p/DATA3 (io), 134 VCCINT, 135 IO_135/DATA4 (io), 136 IO_136 (io), 137 IO_137/DATA5 (io), 138 VCCINT, 139 VCCIO8, 140 GND, 141 IO_141 (io), 142 IO_142 (io), 143 IO_143/PLL3_CLKOUTn (io), 144 IO_144/PLL3_CLKOUTp (io), EP GND
text: FPGA 25k LEs; Intel Cyclone 10 LP; BANK 5; BANK 1; BANK 2; BANK 6; BANK 3; BANK 7; BANK 4; BANK 8

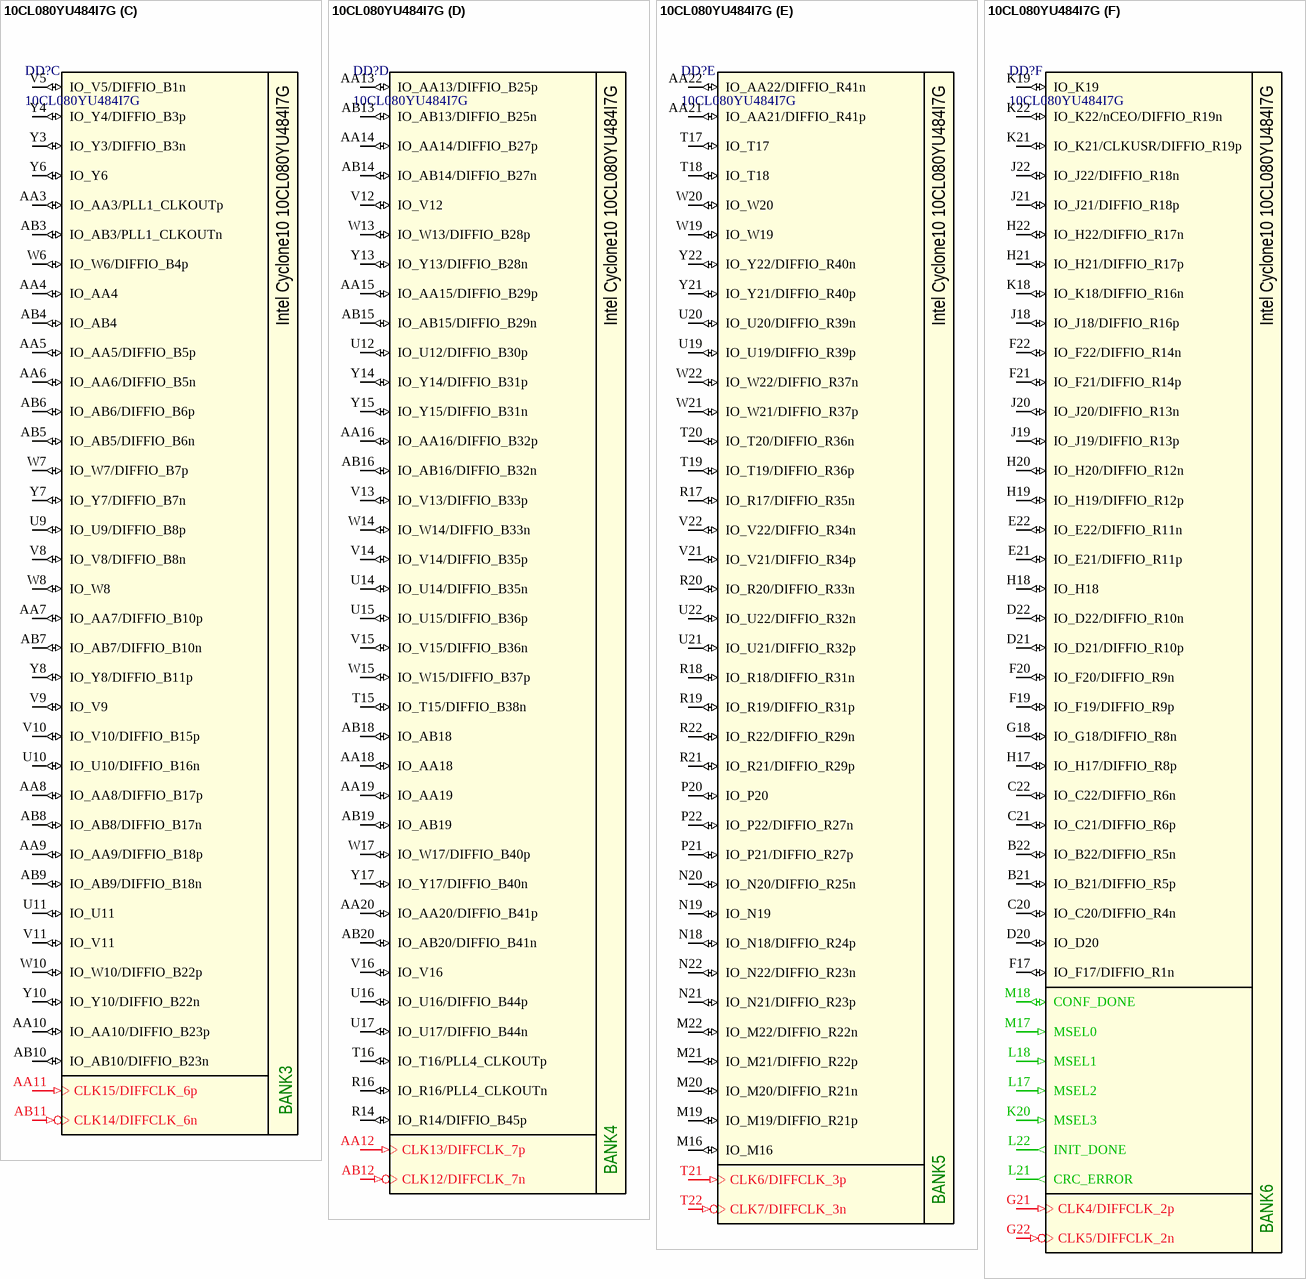
[diagram p13: symbol 10CL080YU484I7G]

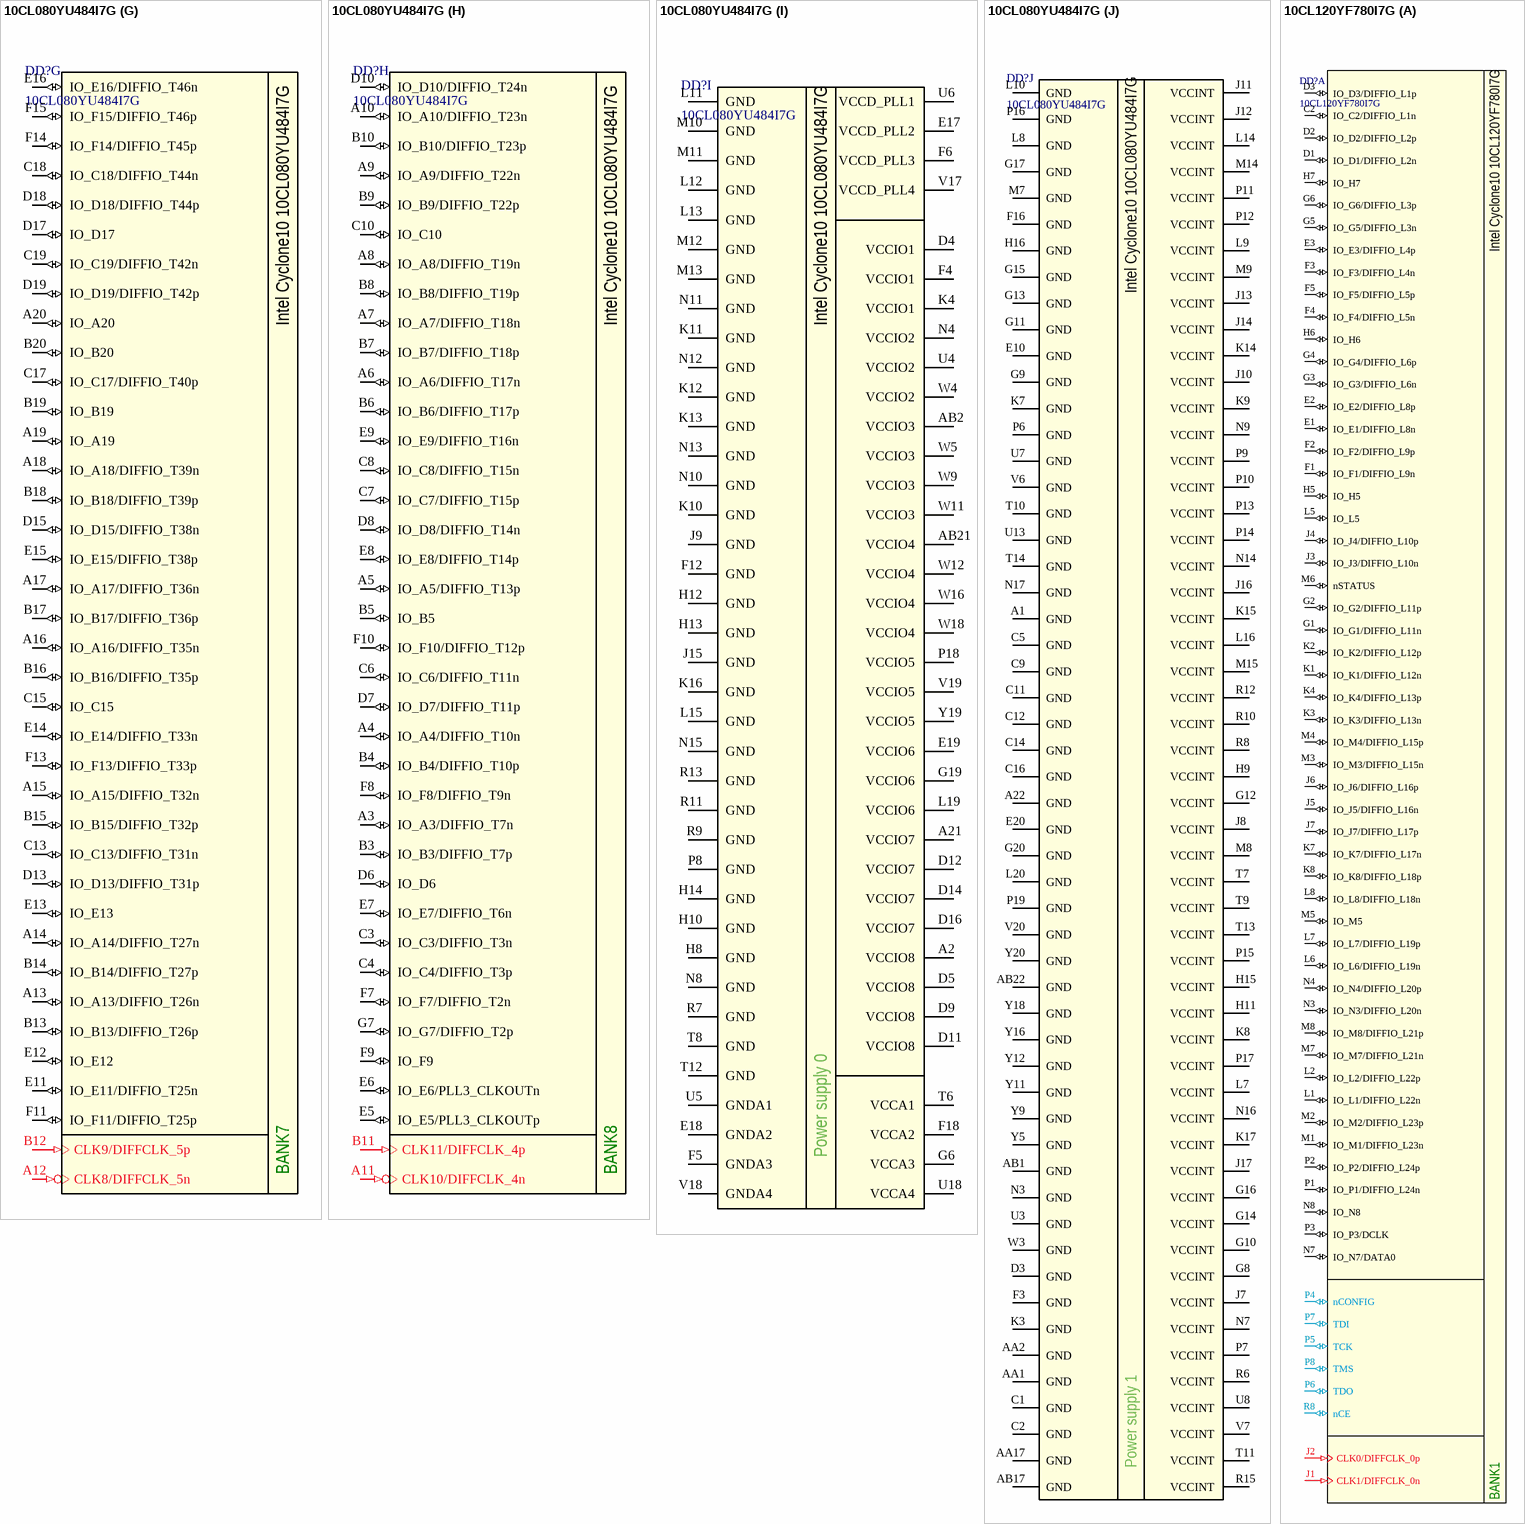
[diagram p14: symbols 10CL080YU484I7G to 10CL120YF780I7G]

## 10CL080YU484I7G
designator DD?
Intel Cyclone 10 FPGA with 80k LEs; Manufacturer: Altera/Intel; Package: UBGA-484; Part Number: 10CL080YU484I7G
footprint UBGA-484 (UBGA-484 package with 0.8mm pitch)
part A pins: B1 IO_B1/DIFFIO_L2n (io), B2 IO_B2/DIFFIO_L2p (io), D1 IO_D2/DIFFIO_L5n/DATA1 (io), D2 IO_D2/DIFFIO_L5p (io), E1 IO_E1/DIFFIO_L8n (io), E2 IO_E2/DIFFIO_L8p/nCSO (io), E3 IO_E3/DIFFIO_L3n (io), E4 IO_E4/DIFFIO_L3p (io), F1 IO_F1/DIFFIO_L9n (io), F2 IO_F2/DIFFIO_L9p (io), G1 CLK1/DIFFCLK_0n (in), G2 CLK0/DIFFCLK_0p (in), G3 IO_G3/DIFFIO_L1n (io), G4 IO_G4/DIFFIO_L1p  (io), G5 IO_G5 (io), H1 IO_H1/DIFFIO_L13n (io), H2 IO_H2/DIFFIO_L13p (io), H3 IO_H3/DIFFIO_L7n (io), H4 IO_H4/DIFFIO_L7p (io), H5 IO_H5 (io), H6 IO_H6/DIFFIO_L6p (io), H7 IO_H7 (io), J1 IO_J1/DIFFIO_L17n (io), J2 IO_J2/DIFFIO_L17p (io), J3 IO_J3 (io), J4 IO_J4/DIFFIO_L12p (io), J5 IO_J5 (io), J6 IO_J6/DIFFIO_L6n (io), K1 IO_K1/DATA0 (io), K2 IO_K2/DCLK (io), K5 nCONFIG (io), K6 nSTATUS (io), L1 TMS (io), L2 TCK (io), L3 nCE (io), L4 TDO (io), L5 TDI (io)
part B pins: L6 IO_L6/DIFFIO_L19p (io), M1 IO_M1/DIFFIO_L20n (io), M2 IO_M2/DIFFIO_L20p (io), M3 IO_M3/DIFFIO_L21n (io), M4 IO_M4/DIFFIO_L21p (io), M5 IO_M5 (io), M6 IO_M6/DIFFIO_L19n (io), N1 IO_N1/DIFFIO_L22n (io), N2 IO_N2/DIFFIO_L22p (io), N5 IO_N5/DIFFIO_L25n (io), N6 IO_N6/DIFFIO_L29n (io), P1 IO_P1/DIFFIO_L23n (io), P2 IO_P2/DIFFIO_L23p (io), P3 IO_P3/DIFFIO_L26n (io), P4 IO_P4/DIFFIO_L26p (io), P5 IO_P5/DIFFIO_L29p (io), R1 IO_R1/DIFFIO_L24n (io), R2 IO_R2/DIFFIO_L24p (io), R3 IO_R3/DIFFIO_L30n (io), R4 IO_R4/DIFFIO_L30p (io), R5 IO_R5 (io), T1 CLK4/DIFFCLK_1n (in), T2 CLK3/DIFFCLK_1p (in), T3 IO_T3 (io), T4 IO_T4/DIFFIO_L35p (io), T5 IO_T5/DIFFIO_L35n (io), U1 IO_U1/DIFFIO_L27n (io), U2 IO_U2/DIFFIO_L27p (io), V1 IO_V1/DIFFIO_L28n (io), V2 IO_V2/DIFFIO_L28p (io), V3 IO_V3 (io), V4 IO_V4 (io), W1 IO_W1/DIFFIO_L31n (io), W2 IO_W2/DIFFIO_L31p (io), Y1 IO_Y1/DIFFIO_L32n (io), Y2 IO_Y2/DIFFIO_L32p (io)
part C pins: AA3 IO_AA3/PLL1_CLKOUTp (io), AA4 IO_AA4 (io), AA5 IO_AA5/DIFFIO_B5p (io), AA6 IO_AA6/DIFFIO_B5n (io), AA7 IO_AA7/DIFFIO_B10p (io), AA8 IO_AA8/DIFFIO_B17p (io), AA9 IO_AA9/DIFFIO_B18p (io), AA10 IO_AA10/DIFFIO_B23p (io), AA11 CLK15/DIFFCLK_6p (in), AB3 IO_AB3/PLL1_CLKOUTn (io), AB4 IO_AB4 (io), AB5 IO_AB5/DIFFIO_B6n (io), AB6 IO_AB6/DIFFIO_B6p (io), AB7 IO_AB7/DIFFIO_B10n (io), AB8 IO_AB8/DIFFIO_B17n (io), AB9 IO_AB9/DIFFIO_B18n (io), AB10 IO_AB10/DIFFIO_B23n (io), AB11 CLK14/DIFFCLK_6n (in), U9 IO_U9/DIFFIO_B8p (io), U10 IO_U10/DIFFIO_B16n (io), U11 IO_U11 (io), V5 IO_V5/DIFFIO_B1n (io), V8 IO_V8/DIFFIO_B8n (io), V9 IO_V9 (io), V10 IO_V10/DIFFIO_B15p (io), V11 IO_V11 (io), W6 IO_W6/DIFFIO_B4p (io), W7 IO_W7/DIFFIO_B7p (io), W8 IO_W8 (io), W10 IO_W10/DIFFIO_B22p (io), Y3 IO_Y3/DIFFIO_B3n (io), Y4 IO_Y4/DIFFIO_B3p (io), Y6 IO_Y6 (io), Y7 IO_Y7/DIFFIO_B7n (io), Y8 IO_Y8/DIFFIO_B11p (io), Y10 IO_Y10/DIFFIO_B22n (io)
part D pins: AA12 CLK13/DIFFCLK_7p (in), AA13 IO_AA13/DIFFIO_B25p (io), AA14 IO_AA14/DIFFIO_B27p (io), AA15 IO_AA15/DIFFIO_B29p (io), AA16 IO_AA16/DIFFIO_B32p (io), AA18 IO_AA18 (io), AA19 IO_AA19 (io), AA20 IO_AA20/DIFFIO_B41p (io), AB12 CLK12/DIFFCLK_7n (in), AB13 IO_AB13/DIFFIO_B25n (io), AB14 IO_AB14/DIFFIO_B27n (io), AB15 IO_AB15/DIFFIO_B29n (io), AB16 IO_AB16/DIFFIO_B32n (io), AB18 IO_AB18 (io), AB19 IO_AB19 (io), AB20 IO_AB20/DIFFIO_B41n (io), R14 IO_R14/DIFFIO_B45p (io), R16 IO_R16/PLL4_CLKOUTn (io), T15 IO_T15/DIFFIO_B38n (io), T16 IO_T16/PLL4_CLKOUTp (io), U12 IO_U12/DIFFIO_B30p (io), U14 IO_U14/DIFFIO_B35n (io), U15 IO_U15/DIFFIO_B36p (io), U16 IO_U16/DIFFIO_B44p (io), U17 IO_U17/DIFFIO_B44n (io), V12 IO_V12 (io), V13 IO_V13/DIFFIO_B33p (io), V14 IO_V14/DIFFIO_B35p (io), V15 IO_V15/DIFFIO_B36n (io), V16 IO_V16 (io), W13 IO_W13/DIFFIO_B28p (io), W14 IO_W14/DIFFIO_B33n (io), W15 IO_W15/DIFFIO_B37p (io), W17 IO_W17/DIFFIO_B40p (io), Y13 IO_Y13/DIFFIO_B28n (io), Y14 IO_Y14/DIFFIO_B31p (io), Y15 IO_Y15/DIFFIO_B31n (io), Y17 IO_Y17/DIFFIO_B40n (io)
part E pins: AA21 IO_AA21/DIFFIO_R41p (io), AA22 IO_AA22/DIFFIO_R41n (io), M16 IO_M16 (io), M19 IO_M19/DIFFIO_R21p (io), M20 IO_M20/DIFFIO_R21n (io), M21 IO_M21/DIFFIO_R22p (io), M22 IO_M22/DIFFIO_R22n (io), N18 IO_N18/DIFFIO_R24p (io), N19 IO_N19 (io), N20 IO_N20/DIFFIO_R25n (io), N21 IO_N21/DIFFIO_R23p (io), N22 IO_N22/DIFFIO_R23n (io), P20 IO_P20 (io), P21 IO_P21/DIFFIO_R27p (io), P22 IO_P22/DIFFIO_R27n (io), R17 IO_R17/DIFFIO_R35n (io), R18 IO_R18/DIFFIO_R31n (io), R19 IO_R19/DIFFIO_R31p (io), R20 IO_R20/DIFFIO_R33n (io), R21 IO_R21/DIFFIO_R29p (io), R22 IO_R22/DIFFIO_R29n (io), T17 IO_T17 (io), T18 IO_T18 (io), T19 IO_T19/DIFFIO_R36p (io), T20 IO_T20/DIFFIO_R36n (io), T21 CLK6/DIFFCLK_3p (in), T22 CLK7/DIFFCLK_3n (in), U19 IO_U19/DIFFIO_R39p (io), U20 IO_U20/DIFFIO_R39n (io), U21 IO_U21/DIFFIO_R32p (io), U22 IO_U22/DIFFIO_R32n (io), V21 IO_V21/DIFFIO_R34p (io), V22 IO_V22/DIFFIO_R34n (io), W19 IO_W19 (io), W20 IO_W20 (io), W21 IO_W21/DIFFIO_R37p (io), W22 IO_W22/DIFFIO_R37n (io), Y21 IO_Y21/DIFFIO_R40p (io), Y22 IO_Y22/DIFFIO_R40n (io)
part F pins: B21 IO_B21/DIFFIO_R5p (io), B22 IO_B22/DIFFIO_R5n (io), C20 IO_C20/DIFFIO_R4n (io), C21 IO_C21/DIFFIO_R6p (io), C22 IO_C22/DIFFIO_R6n (io), D20 IO_D20 (io), D21 IO_D21/DIFFIO_R10p (io), D22 IO_D22/DIFFIO_R10n (io), E21 IO_E21/DIFFIO_R11p (io), E22 IO_E22/DIFFIO_R11n (io), F17 IO_F17/DIFFIO_R1n (io), F19 IO_F19/DIFFIO_R9p (io), F20 IO_F20/DIFFIO_R9n (io), F21 IO_F21/DIFFIO_R14p (io), F22 IO_F22/DIFFIO_R14n (io), G18 IO_G18/DIFFIO_R8n (io), G21 CLK4/DIFFCLK_2p (in), G22 CLK5/DIFFCLK_2n (in), H17 IO_H17/DIFFIO_R8p (io), H18 IO_H18 (io), H19 IO_H19/DIFFIO_R12p (io), H20 IO_H20/DIFFIO_R12n (io), H21 IO_H21/DIFFIO_R17p (io), H22 IO_H22/DIFFIO_R17n (io), J18 IO_J18/DIFFIO_R16p (io), J19 IO_J19/DIFFIO_R13p (io), J20 IO_J20/DIFFIO_R13n (io), J21 IO_J21/DIFFIO_R18p (io), J22 IO_J22/DIFFIO_R18n (io), K18 IO_K18/DIFFIO_R16n (io), K19 IO_K19 (io), K20 MSEL3 (in), K21 IO_K21/CLKUSR/DIFFIO_R19p (io), K22 IO_K22/nCEO/DIFFIO_R19n (io), L17 MSEL2 (in), L18 MSEL1 (in), L21 CRC_ERROR (out), L22 INIT_DONE (out), M17 MSEL0 (in), M18 CONF_DONE (io)
part G pins: A12 CLK8/DIFFCLK_5n (in), A13 IO_A13/DIFFIO_T26n (io), A14 IO_A14/DIFFIO_T27n (io), A15 IO_A15/DIFFIO_T32n (io), A16 IO_A16/DIFFIO_T35n (io), A17 IO_A17/DIFFIO_T36n (io), A18 IO_A18/DIFFIO_T39n (io), A19 IO_A19 (io), A20 IO_A20 (io), B12 CLK9/DIFFCLK_5p (in), B13 IO_B13/DIFFIO_T26p (io), B14 IO_B14/DIFFIO_T27p (io), B15 IO_B15/DIFFIO_T32p (io), B16 IO_B16/DIFFIO_T35p (io), B17 IO_B17/DIFFIO_T36p (io), B18 IO_B18/DIFFIO_T39p (io), B19 IO_B19 (io), B20 IO_B20 (io), C13 IO_C13/DIFFIO_T31n (io), C15 IO_C15 (io), C17 IO_C17/DIFFIO_T40p (io), C18 IO_C18/DIFFIO_T44n (io), C19 IO_C19/DIFFIO_T42n (io), D13 IO_D13/DIFFIO_T31p (io), D15 IO_D15/DIFFIO_T38n (io), D17 IO_D17 (io), D18 IO_D18/DIFFIO_T44p (io), D19 IO_D19/DIFFIO_T42p (io), E11 IO_E11/DIFFIO_T25n (io), E12 IO_E12 (io), E13 IO_E13 (io), E14 IO_E14/DIFFIO_T33n (io), E15 IO_E15/DIFFIO_T38p (io), E16 IO_E16/DIFFIO_T46n (io), F11 IO_F11/DIFFIO_T25p (io), F13 IO_F13/DIFFIO_T33p (io), F14 IO_F14/DIFFIO_T45p (io), F15 IO_F15/DIFFIO_T46p (io)
part H pins: A3 IO_A3/DIFFIO_T7n (io), A4 IO_A4/DIFFIO_T10n (io), A5 IO_A5/DIFFIO_T13p (io), A6 IO_A6/DIFFIO_T17n (io), A7 IO_A7/DIFFIO_T18n (io), A8 IO_A8/DIFFIO_T19n (io), A9 IO_A9/DIFFIO_T22n (io), A10 IO_A10/DIFFIO_T23n (io), A11 CLK10/DIFFCLK_4n (in), B3 IO_B3/DIFFIO_T7p (io), B4 IO_B4/DIFFIO_T10p (io), B5 IO_B5 (io), B6 IO_B6/DIFFIO_T17p (io), B7 IO_B7/DIFFIO_T18p (io), B8 IO_B8/DIFFIO_T19p (io), B9 IO_B9/DIFFIO_T22p (io), B10 IO_B10/DIFFIO_T23p (io), B11 CLK11/DIFFCLK_4p (in), C3 IO_C3/DIFFIO_T3n (io), C4 IO_C4/DIFFIO_T3p (io), C6 IO_C6/DIFFIO_T11n (io), C7 IO_C7/DIFFIO_T15p (io), C8 IO_C8/DIFFIO_T15n (io), C10 IO_C10 (io), D6 IO_D6 (io), D7 IO_D7/DIFFIO_T11p (io), D8 IO_D8/DIFFIO_T14n (io), D10 IO_D10/DIFFIO_T24n (io), E5 IO_E5/PLL3_CLKOUTp (io), E6 IO_E6/PLL3_CLKOUTn (io), E7 IO_E7/DIFFIO_T6n (io), E8 IO_E8/DIFFIO_T14p (io), E9 IO_E9/DIFFIO_T16n (io), F7 IO_F7/DIFFIO_T2n (io), F8 IO_F8/DIFFIO_T9n (io), F9 IO_F9 (io), F10 IO_F10/DIFFIO_T12p (io), G7 IO_G7/DIFFIO_T2p (io)
part I pins: A2 VCCIO8 (power), A21 VCCIO7 (power), AB2 VCCIO3 (power), AB21 VCCIO4 (power), D4 VCCIO1 (power), D5 VCCIO8 (power), D9 VCCIO8 (power), D11 VCCIO8 (power), D12 VCCIO7 (power), D14 VCCIO7 (power), D16 VCCIO7 (power), E17 VCCD_PLL2 (power), E18 GNDA2 (power), E19 VCCIO6 (power), F4 VCCIO1 (power), F5 GNDA3 (power), F6 VCCD_PLL3 (power), F12 GND (power), F18 VCCA2 (power), G6 VCCA3 (power), G19 VCCIO6 (power), H8 GND (power), H10 GND (power), H12 GND (power), H13 GND (power), H14 GND (power), J9 GND (power), J15 GND (power), K4 VCCIO1 (power), K10 GND (power), K11 GND (power), K12 GND (power), K13 GND (power), K16 GND (power), L11 GND (power), L12 GND (power), L13 GND (power), L15 GND (power), L19 VCCIO6 (power), M10 GND (power), M11 GND (power), M12 GND (power), M13 GND (power), N4 VCCIO2 (power), N8 GND (power), N10 GND (power), N11 GND (power), N12 GND (power), N13 GND (power), N15 GND (power), P8 GND (power), P18 VCCIO5 (power), R7 GND (power), R9 GND (power), R11 GND (power), R13 GND (power), T6 VCCA1 (power), T8 GND (power), T12 GND (power), U4 VCCIO2 (power), U5 GNDA1 (power), U6 VCCD_PLL1 (power), U18 VCCA4 (power), V17 VCCD_PLL4 (power), V18 GNDA4 (power), V19 VCCIO5 (power), W4 VCCIO2 (power), W5 VCCIO3 (power), W9 VCCIO3 (power), W11 VCCIO3 (power), W12 VCCIO4 (power), W16 VCCIO4 (power), W18 VCCIO4 (power), Y19 VCCIO5 (power)
part J pins: A1 GND (power), A22 GND (power), AA1 GND (power), AA2 GND (power), AA17 GND (power), AB1 GND (power), AB17 GND (power), AB22 GND (power), C1 GND (power), C2 GND (power), C5 GND (power), C9 GND (power), C11 GND (power), C12 GND (power), C14 GND (power), C16 GND (power), D3 GND (power), E10 GND (power), E20 GND (power), F3 GND (power), F16 GND (power), G8 VCCINT (power), G9 GND (power), G10 VCCINT (power), G11 GND (power), G12 VCCINT (power), G13 GND (power), G14 VCCINT (power), G15 GND (power), G16 VCCINT (power), G17 GND (power), G20 GND (power), H9 VCCINT (power), H11 VCCINT (power), H15 VCCINT (power), H16 GND (power), J7 VCCINT (power), J8 VCCINT (power), J10 VCCINT (power), J11 VCCINT (power), J12 VCCINT (power), J13 VCCINT (power), J14 VCCINT (power), J16 VCCINT (power), J17 VCCINT (power), K3 GND (power), K7 GND (power), K8 VCCINT (power), K9 VCCINT (power), K14 VCCINT (power), K15 VCCINT (power), K17 VCCINT (power), L7 VCCINT (power), L8 GND (power), L9 VCCINT (power), L10 GND (power), L14 VCCINT (power), L16 VCCINT (power), L20 GND (power), M7 GND (power), M8 VCCINT (power), M9 VCCINT (power), M14 VCCINT (power), M15 VCCINT (power), N3 GND (power), N7 VCCINT (power), N9 VCCINT (power), N14 VCCINT (power), N16 VCCINT (power), N17 GND (power), P6 GND (power), P7 VCCINT (power), P9 VCCINT (power), P10 VCCINT (power), P11 VCCINT (power), P12 VCCINT (power), P13 VCCINT (power), P14 VCCINT (power), P15 VCCINT (power), P16 GND (power), P17 VCCINT (power), P19 GND (power), R6 VCCINT (power), R8 VCCINT (power), R10 VCCINT (power), R12 VCCINT (power), R15 VCCINT (power), T7 VCCINT (power), T9 VCCINT (power), T10 GND (power), T11 VCCINT (power), T13 VCCINT (power), T14 GND (power), U3 GND (power), U7 GND (power), U8 VCCINT (power), U13 GND (power), V6 GND (power), V7 VCCINT (power), V20 GND (power), W3 GND (power), Y5 GND (power), Y9 GND (power), Y11 GND (power), Y12 GND (power), Y16 GND (power), Y18 GND (power), Y20 GND (power)
part A text: Intel Cyclone10 10CL080YU484I7G; BANK1
part B text: Intel Cyclone10 10CL080YU484I7G; BANK2
part C text: Intel Cyclone10 10CL080YU484I7G; BANK3
part D text: Intel Cyclone10 10CL080YU484I7G; BANK4
part E text: Intel Cyclone10 10CL080YU484I7G; BANK5
part F text: Intel Cyclone10 10CL080YU484I7G; BANK6
part G text: Intel Cyclone10 10CL080YU484I7G; BANK7
part H text: Intel Cyclone10 10CL080YU484I7G; BANK8
part I text: Intel Cyclone10 10CL080YU484I7G; Power supply 0
part J text: Intel Cyclone10 10CL080YU484I7G; Power supply 1

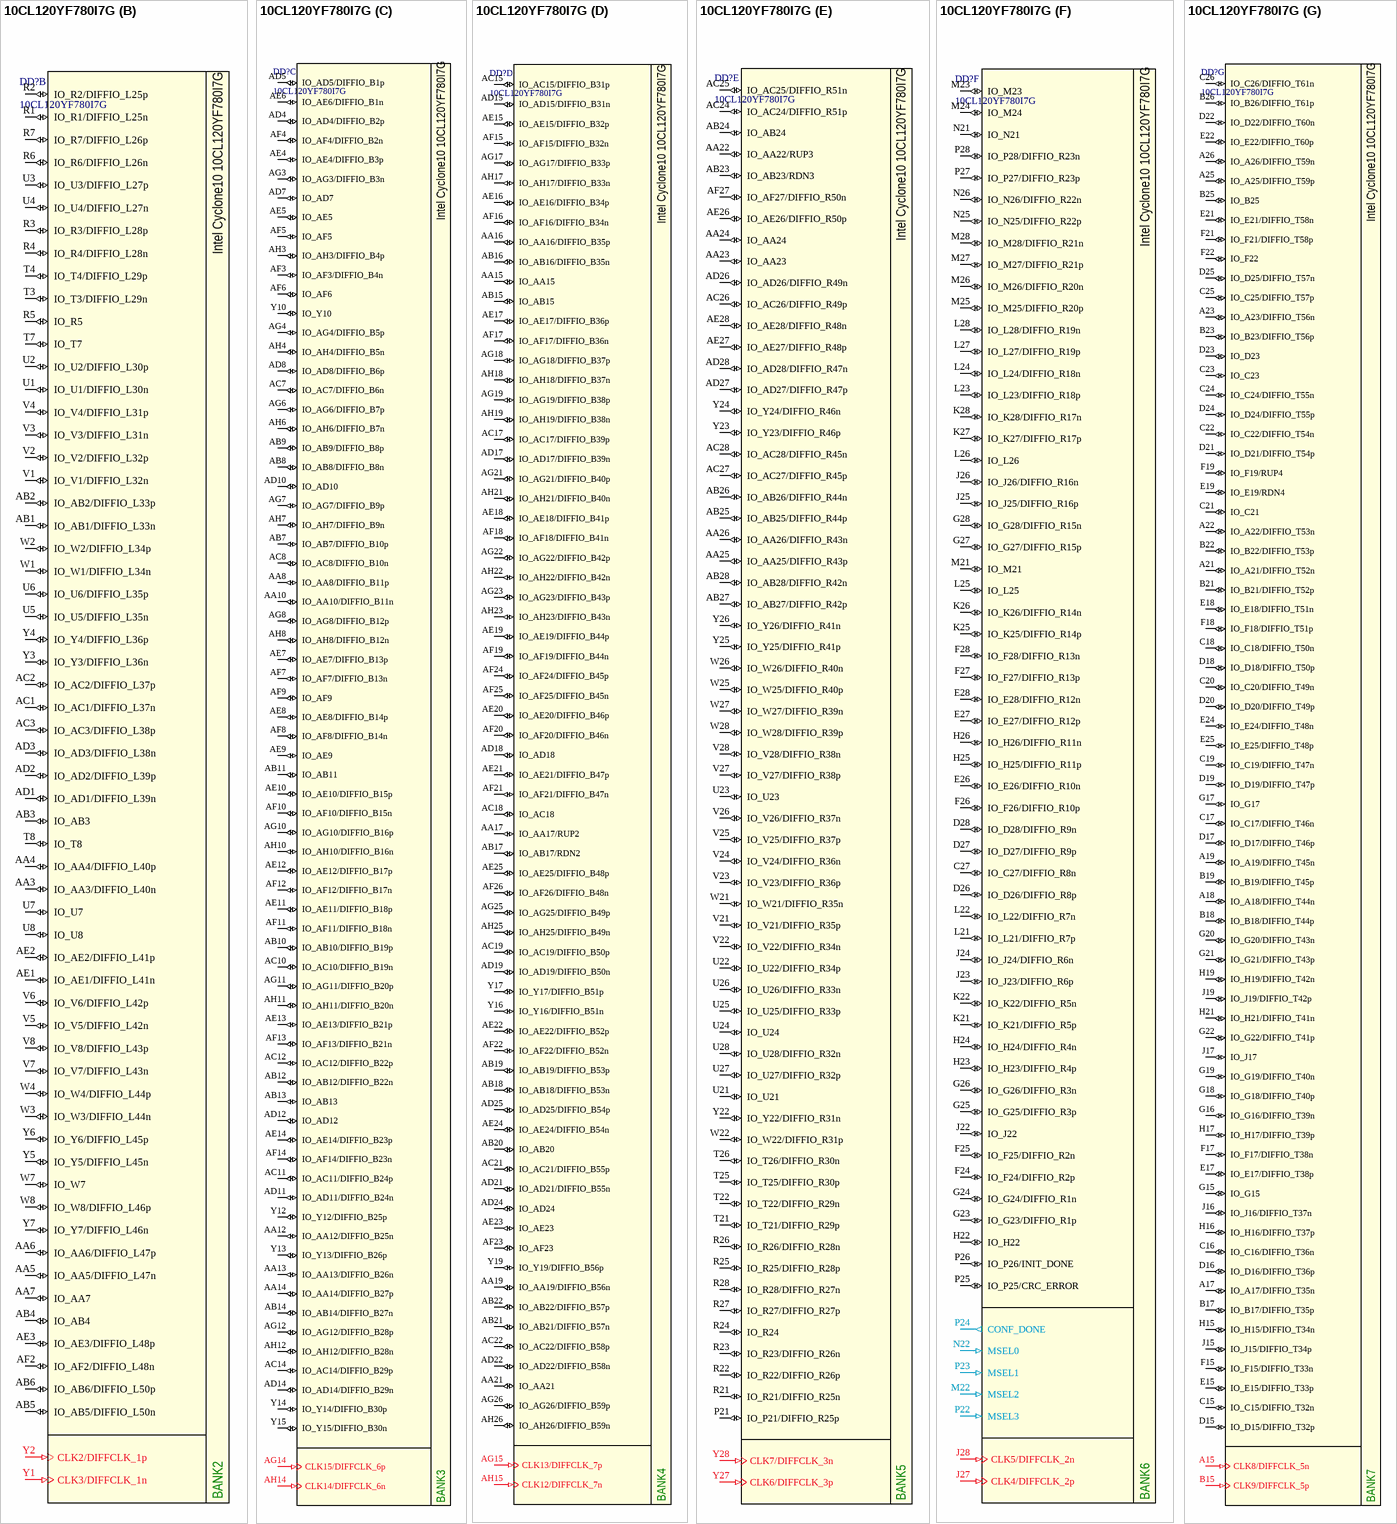
[diagram p15: symbol 10CL120YF780I7G]

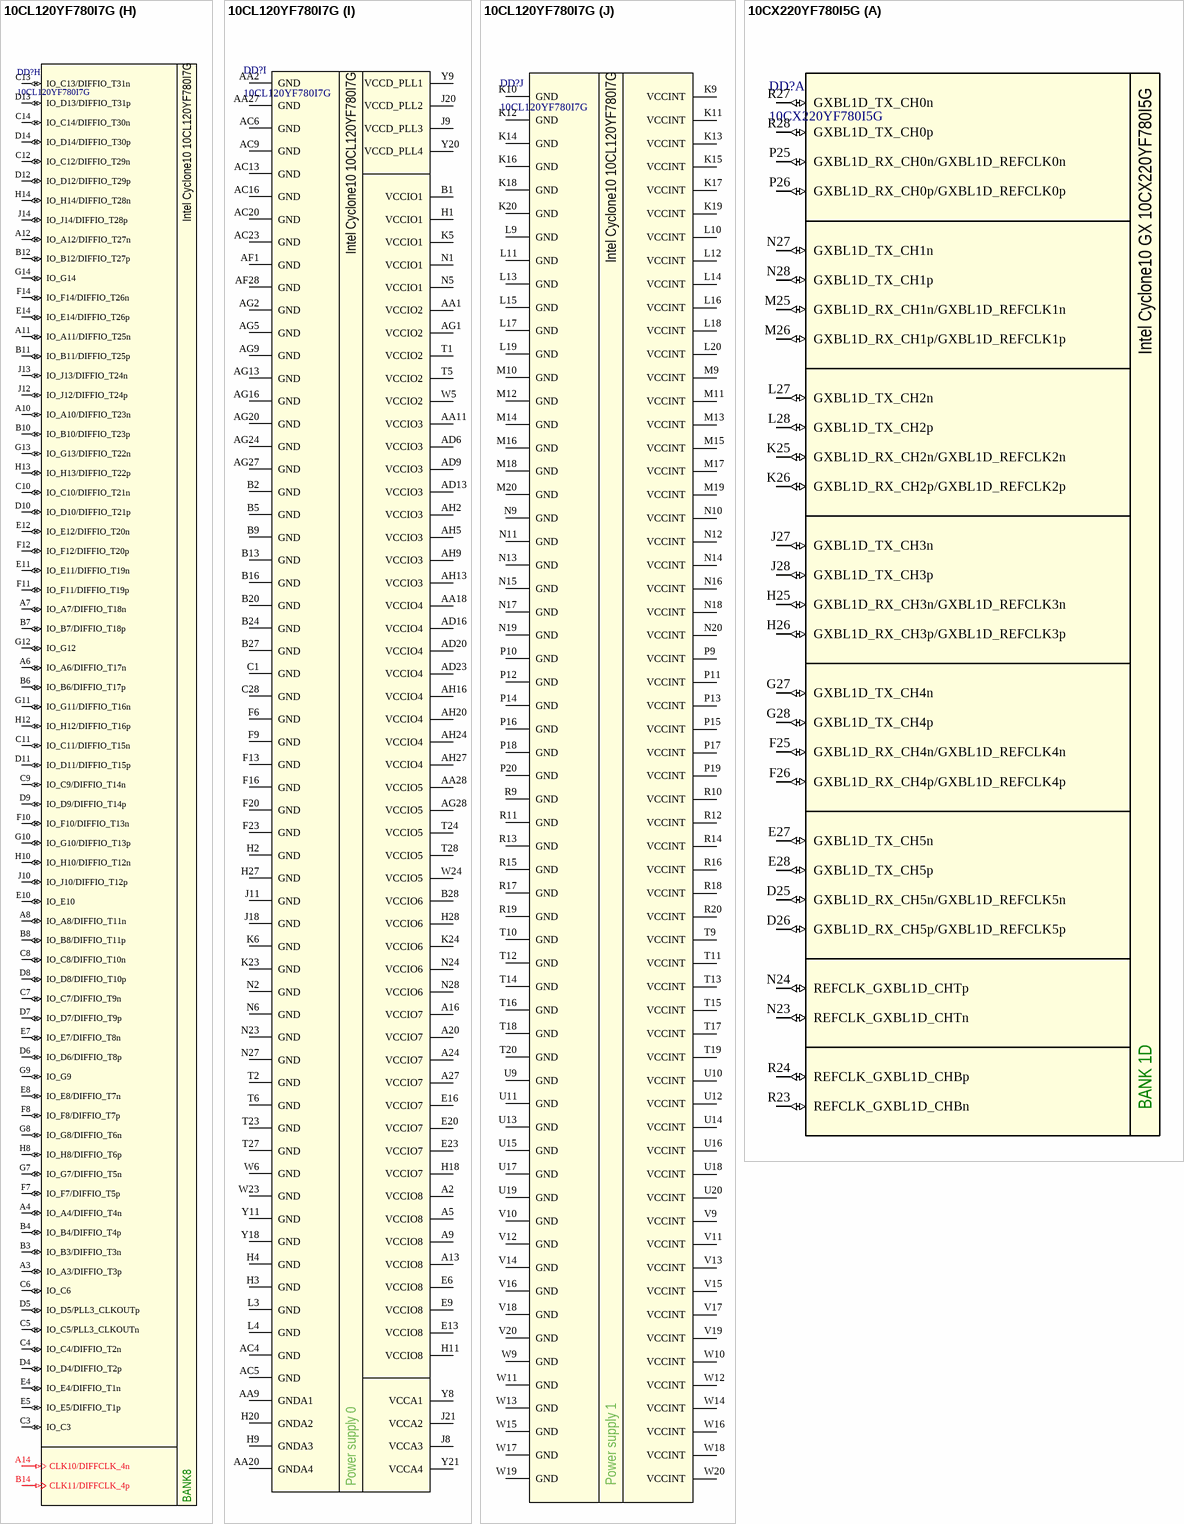
[diagram p16: symbols 10CL120YF780I7G to 10CX220YF780I5G]